# Altium footprint library Resistor.PcbLib: 56 footprints (part 4 of 4)
Each footprint in its own frame and in the unit in brackets; x right, y up, seen from the top. Pads: shape width x height; smd on the part's side, far side on the other; paste and mask are expansions set on the pad; w line width, h text height; cw(c..) or ccw(c..) is an arc to the next point about the centre after c.
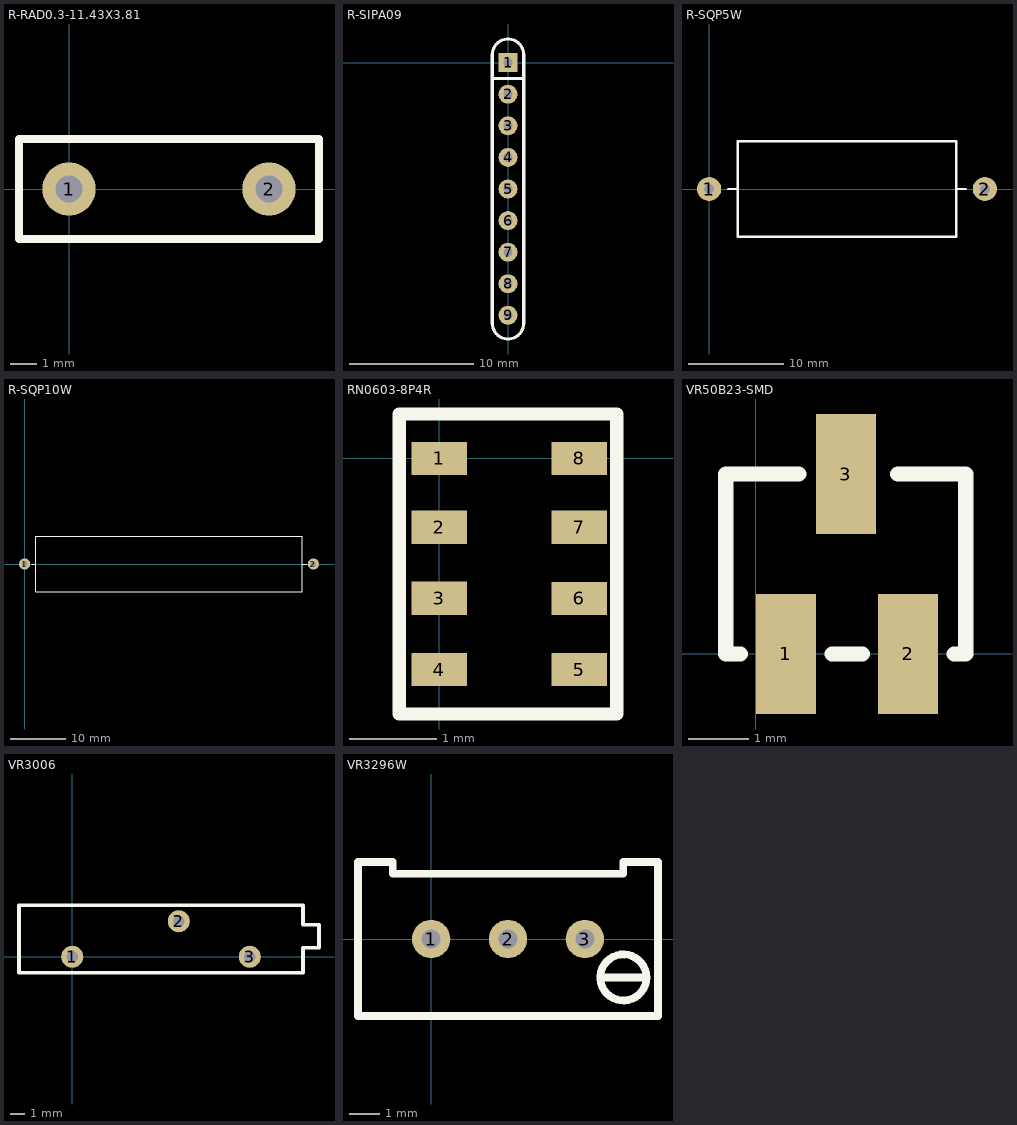
[diagram p3: the footprints below, top view; thin cyan lines are the x and y axes]

## R-RAD0.3-11.43X3.81 [mil] "RAD0.3"
pads (2):
  round 80 hole 40: 1(0,0) 2(300,0)
Top Overlay:
  lines w12: -75,-75 375,-75 375,75 -75,75 -75,-75
3D body: height 300, standoff 10, extent -60,-60 360,60
3D body: height 10, standoff -100, extent -10,-10 9.92,9.96
3D body: height 10, standoff -100, extent 290,-10 309.92,9.96

## R-SIPA09 [mil]
pads (9):
  rect 60x60 hole 30: 1(0,0)
  round 60 hole 30: 2(0,-100) 3(0,-200) 4(0,-300) 5(0,-400) 6(0,-500) 7(0,-600) 8(0,-700) 9(0,-800)
Top Overlay:
  lines w10: -50,-50 50,-50 ; -50,-825 ccw(c0,-825) 50,-825 50,25 ccw(c0,25) -50,25 -50,-825
3D body: height 78.74, standoff 0, extent -11.76,-811.58 11.76,-788
3D body: height 78.74, standoff 0, extent -11.76,-711.58 11.76,-688
3D body: height 78.74, standoff 0, extent -12,-611.79 11.53,-588.21
3D body: height 78.74, standoff 0, extent -12,-511.79 11.53,-488.21
3D body: height 78.74, standoff 0, extent -11.76,-412 11.76,-388.42
3D body: height 78.74, standoff 0, extent -11.53,-311.79 12,-288.21
3D body: height 78.74, standoff 0, extent -12,-211.79 11.53,-188.21
3D body: height 78.74, standoff 0, extent -11.53,-111.79 12,-88.21
3D body: height 78.74, standoff 0, extent -11.53,-11.79 12,11.79
3D body: height 236.22, standoff 78.74, extent -26.5,-843 27.5,41

## R-SQP5W [mil]
pads (2):
  round 100 hole 40: 1(0,0) 2(1141.73,0)
Top Overlay:
  lines w10: 78.74,0 118.11,0 ; 1023.62,0 1062.99,0 ; 118.11,-196.85 1023.62,-196.85 1023.62,196.85 118.11,196.85 118.11,-196.85
3D body: height 196.85, standoff 0, extent -20.21,-20 19,19.29
3D body: height 393.7, standoff 0, extent 175,-175 975,175
3D body: height 216.38, standoff 177.17, extent -20.44,-20.29 174.44,19
3D body: height 216.38, standoff 177.17, extent 974.99,-19.29 1161.01,20
3D body: height 196.85, standoff 0, extent 1122.21,-19.64 1161.42,19.65

## R-SQP10W [mil]
pads (2):
  round 80 hole 40: 1(0,0) 2(2047.24,0)
Top Overlay:
  lines w8: 48.74,0 78.74,0 ; 1968.5,0 1998.74,0 ; 78.74,-196.85 78.74,196.85 1968.5,196.85 1968.5,-196.85 78.74,-196.85
3D body: height 196.85, standoff 0, extent 2027.79,-19.64 2067,19.65
3D body: height 216.38, standoff 177.17, extent 1820,-20 2066.07,19.29
3D body: height 393.7, standoff 0, extent 225,-175 1820,175
3D body: height 216.38, standoff 177.17, extent -20,-20 226.07,19.29
3D body: height 196.85, standoff 0, extent -20.21,-19.64 19,19.65

## RN0603-8P4R [mil]
height 1
pads (8):
  rect 25x15 smd: 1(0,0) 2(0,-31) 3(0,-62.93) 4(0,-95) 5(63,-95) 6(63,-63) 7(63,-31) 8(63,0)
Top Overlay:
  lines w6: -18,-115 -18,20 80,20 80,-115 -18,-115
3D body "R0603-8P4R.STEP": height 21.65, standoff 0, extent -0.5,-109.98 62.5,16

## VR50B23-SMD [mm]
pads (3):
  rect 1x2 smd: 1(0.5,0) 2(2.54,0) 3(1.5,3)
Top Overlay:
  lines w0.254: -0.254,0 -0.5,0 -0.5,3 0.714,3 ; 1.27,0 1.778,0 ; 2.365,3 3.5,3 3.5,0 3.302,0
3D body: height 2, standoff 1, extent 0.157,0 3.145,2.994
3D body: height 1, standoff 0, extent -0.127,0 3.429,3.048

## VR3006 [mil]
pads (3):
  round 62 hole 32: 1(0,0) 2(300,100) 3(500,0)
Top Overlay:
  lines w10: -150,-45 650,-45 650,25 695,25 695,90 650,90 650,145 -150,145 -150,-45

## VR3296W [mil]
pads (3):
  round 50 hole 25: 1(0,0) 2(100,0) 3(200,0)
Top Overlay:
  circle w10: c250,-50 r30
  lines w10: 220,-50 280,-50 ; -95,-100 295,-100 295,100 250,100 250,85 -50,85 -50,100 -95,100 -95,-100
3D body "VR3296W.STEP": height 454.72, standoff -251.97, extent -87.6,-95 287.6,95.2